# Altium footprint library MODULE_ESP32-WROVER-B.PcbLib: 1 footprints
Each footprint in its own frame and in the unit in brackets; x right, y up, seen from the top. Pads: shape width x height; smd on the part's side, far side on the other; paste and mask are expansions set on the pad; w line width, h text height; cw(c..) or ccw(c..) is an arc to the next point about the centre after c.
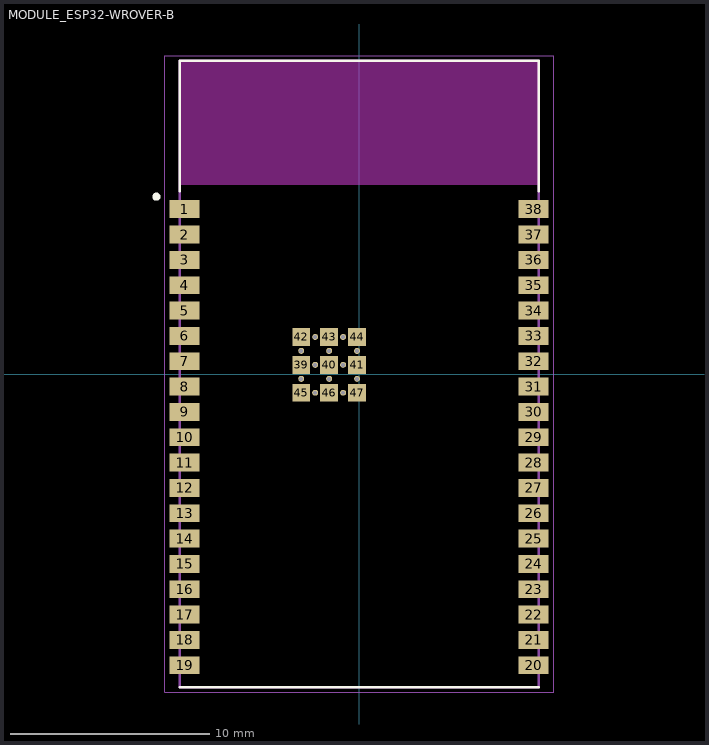
[diagram p0: the footprint, top view; thin cyan lines are the x and y axes]

## MODULE_ESP32-WROVER-B [mm]
height 3.45
pads (59):
  rect 1.5x0.9 smd: 1(-8.75,8.26) 2(-8.75,6.99) 3(-8.75,5.72) 4(-8.75,4.45) 5(-8.75,3.18) 6(-8.75,1.91) 7(-8.75,0.64) 8(-8.75,-0.63) 9(-8.75,-1.9) 10(-8.75,-3.17) 11(-8.75,-4.44) 12(-8.75,-5.71) 13(-8.75,-6.98) 14(-8.75,-8.25) 15(-8.75,-9.52) 16(-8.75,-10.79) 17(-8.75,-12.06) 18(-8.75,-13.33) 19(-8.75,-14.6) 20(8.75,-14.6) 21(8.75,-13.33) 22(8.75,-12.06) 23(8.75,-10.79) 24(8.75,-9.52) 25(8.75,-8.25) 26(8.75,-6.98) 27(8.75,-5.71) 28(8.75,-4.44) 29(8.75,-3.17) 30(8.75,-1.9) 31(8.75,-0.63) 32(8.75,0.64) 33(8.75,1.91) 34(8.75,3.18) 35(8.75,4.45) 36(8.75,5.72) 37(8.75,6.99) 38(8.75,8.26)
  rect 0.9x0.9 smd: 39(-2.9,0.46) 40(-1.5,0.46) 41(-0.1,0.46) 42(-2.9,1.86) 43(-1.5,1.86) 44(-0.1,1.86) 45(-2.9,-0.94) 46(-1.5,-0.94) 47(-0.1,-0.94)
  round 0.3 hole 0.2: 48(-0.1,1.16) 49(-1.5,1.16) 50(-2.9,1.16) 51(-2.9,-0.24) 52(-1.5,-0.24) 53(-0.1,-0.24) 54(-0.8,1.86) 55(-2.2,1.86) 56(-0.8,0.46) 57(-2.2,0.46) 58(-2.2,-0.94) 59(-0.8,-0.94)
Top Overlay:
  circle w0.2: c-10.16,8.89 r0.1
  lines w0.127: -9,-15.7 9,-15.7 ; -9,9.15 -9,15.7 9,15.7 9,9.15
Keep-Out Layer:
  region: 9,9.48 -9,9.48 -9,15.7 9,15.7
Assembly Top:
  lines w0.127: -9,-15.7 9,-15.7 9,15.7 -9,15.7 -9,-15.7
Courtyard Top:
  lines w0.05: -9.75,-15.95 9.75,-15.95 9.75,15.95 -9.75,15.95 -9.75,-15.95
3D body "step_temp.STEP": height 3.45, standoff 0, extent -9,-15.7 9,15.7